# EAGLE library part 2EDL23N06PJ (library 2EDL23N06PJ)
Infineon 2EDL23N06PJ, MOSFET Power Driver Source: Datasheet <https://www.mouser.in/datasheet/2/196/Infineon_2EDL23x06xx_DataSheet_v02_08_EN-776784.pdf>
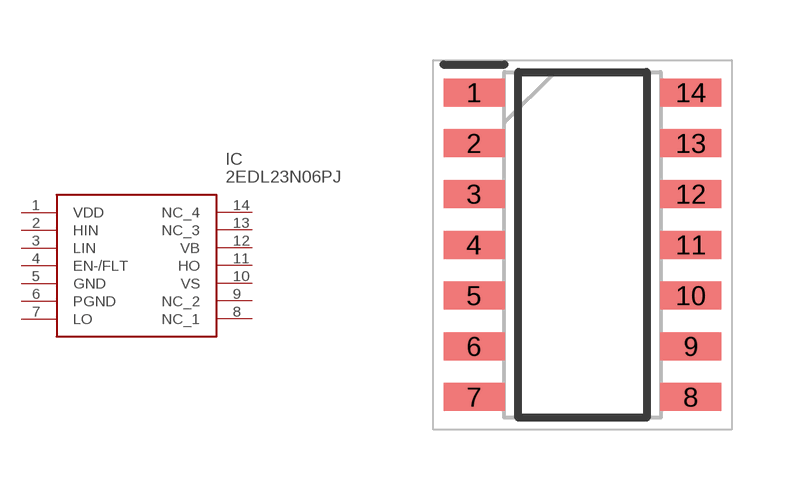
[diagram p0: symbol with the pads of SOIC127P600X175-14N; footprint SOIC127P600X175-14N]

Designator prefix IC

## 2EDL23N06PJ (Description: Infineon 2EDL23N06PJ, MOSFET Power Driver; Height: 1.75mm; Manufacturer_Name: Infineon; Manufacturer_Part_Number: 2EDL23N06PJ; Mouser_Part_Number: 726-2EDL23N06PJ; Mouser_Price-Stock: https://www.mouser.co.uk/ProductDetail/Infineon-Technologies/2EDL23N06PJ?qs=61g%252BPyeGH21MM1hsJUEj5A%3D%3D)  [SOIC127P600X175-14N]
1  VDD
2  HIN
3  LIN
4  EN-/FLT
5  GND
6  PGND
7  LO
8  NC_1
9  NC_2
10  VS
11  HO
12  VB
13  NC_3
14  NC_4

## Footprint SOIC127P600X175-14N (pad centres in mm)
DSO - 14_2022
smd 1.525 x 0.7: 1 -2.712,3.81; 2 -2.712,2.54; 3 -2.712,1.27; 4 -2.712,0; 5 -2.712,-1.27; 6 -2.712,-2.54; 7 -2.712,-3.81; 8 2.712,-3.81; 9 2.712,-2.54; 10 2.712,-1.27; 11 2.712,0; 12 2.712,1.27; 13 2.712,2.54; 14 2.712,3.81